# Altium footprint library 7G09B.PcbLib: 1 footprints
Each footprint in its own frame and in the unit in brackets; x right, y up, seen from the top. Pads: shape width x height; smd on the part's side, far side on the other; paste and mask are expansions set on the pad; w line width, h text height; cw(c..) or ccw(c..) is an arc to the next point about the centre after c.
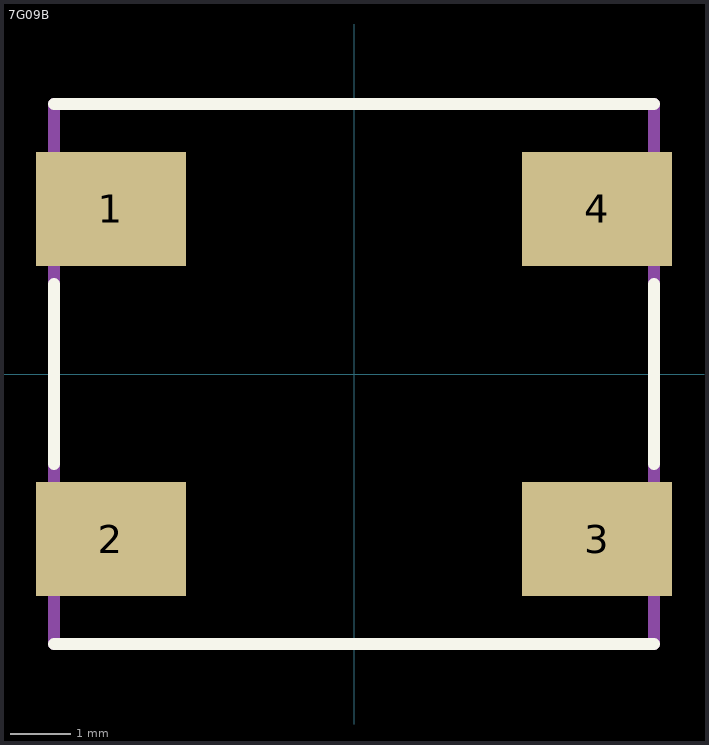
[diagram p0: the footprint, top view; thin cyan lines are the x and y axes]

## 7G09B [mm]
pads (4):
  rect 2.5x1.9 smd: 1(-4.05,2.75) 2(-4.05,-2.75) 3(4.05,-2.75) 4(4.05,2.75)
Top Overlay:
  lines w0.2: -5,-4.5 5,-4.5 ; -5,-1.5 -5,1.5 ; -5,4.5 5,4.5 ; 5,-1.5 5,1.5
Mechanical 15:
  lines w0.2: -5,-4.5 -5,4.5 5,4.5 5,-4.5 -5,-4.5
3D body: height 10, standoff 0, extent -5,-4.5 5,4.5